# Altium footprint library con-stocko.PCBLIB: 18 footprints (part 2 of 2)
Each footprint in its own frame and in the unit in brackets; x right, y up, seen from the top. Pads: shape width x height; smd on the part's side, far side on the other; paste and mask are expansions set on the pad; w line width, h text height; cw(c..) or ccw(c..) is an arc to the next point about the centre after c.
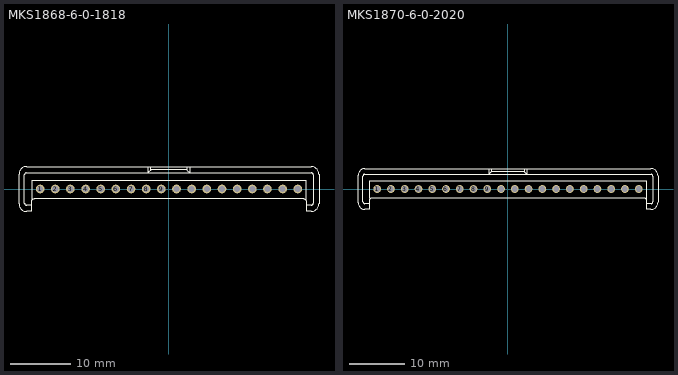
[diagram p1: the footprints below, top view; thin cyan lines are the x and y axes]

## MKS1868-6-0-1818 [mil]
pads (18):
  round 56 hole 39.37: 1(-836.61,0) 2(-738.19,0) 3(-639.76,0) 4(-541.34,0) 5(-442.91,0) 6(-344.49,0) 7(-246.06,0) 8(-147.64,0) 9(-49.21,0) 10(49.21,0) 11(147.64,0) 12(246.06,0) 13(344.49,0) 14(442.91,0) 15(541.34,0) 16(639.76,0) 17(738.19,0) 18(836.61,0)
Top Overlay:
  lines w8: -895.75,-105.13 -923.91,-105.13 cw(c-923.91,-91.05) -937.99,-91.05 -937.99,92.93 cw(c-925.79,92.93) -925.79,105.13 924.85,105.13 cw(c924.85,91.99) 937.99,91.99 937.99,-91.98 cw(c924.85,-91.98) 924.85,-105.13 898.56,-105.13 ; -889.19,-67.58 -889.19,57.26 890.11,57.26 890.11,-68.52 ; -137.05,107.95 -137.05,143.62 ; -133.29,107.95 -118.28,122.97 ; -117.33,142.68 -117.33,123.91 116.39,123.91 116.39,144.56 ; 117.33,122.97 130.47,108.89 ; 136.1,107.95 136.1,142.68 ; -973.66,-96.68 ccw(c-924.85,-96.68) -924.85,-145.49 -894.82,-145.49 -894.82,-85.41 cw(c-874.17,-85.41) -874.17,-64.76 874.16,-64.76 cw(c874.16,-85.41) 894.81,-85.41 894.81,-145.49 923.91,-145.49 ccw(c923.9,-94.81) 974.59,-94.8 974.59,94.81 ccw(c923.9,94.81) 923.91,145.5 -924.85,145.5 ccw(c-924.85,96.69) -973.66,96.69 -973.66,-96.68

## MKS1870-6-0-2020 [mil]
pads (20):
  round 56 hole 39.37: 1(-935.04,0) 2(-836.61,0) 3(-738.19,0) 4(-639.76,0) 5(-541.34,0) 6(-442.91,0) 7(-344.49,0) 8(-246.06,0) 9(-147.64,0) 10(-49.21,0) 11(49.21,0) 12(147.64,0) 13(246.06,0) 14(344.49,0) 15(442.91,0) 16(541.34,0) 17(639.76,0) 18(738.19,0) 19(836.61,0) 20(935.04,0)
Top Overlay:
  lines w8: -994.18,-105.13 -1022.34,-105.13 cw(c-1022.34,-91.05) -1036.42,-91.05 -1036.42,92.93 cw(c-1024.22,92.93) -1024.22,105.13 1023.27,105.13 cw(c1023.27,91.99) 1036.41,91.99 1036.41,-91.98 cw(c1023.26,-91.98) 1023.27,-105.13 996.99,-105.13 ; -987.61,-67.58 -987.61,57.26 988.54,57.26 988.54,-68.52 ; -137.05,107.95 -137.05,143.62 ; -133.29,107.95 -118.28,122.97 ; -117.33,142.68 -117.33,123.91 116.39,123.91 116.39,144.56 ; 117.33,122.97 130.47,108.89 ; 136.1,107.95 136.1,142.68 ; -1072.09,-96.68 ccw(c-1023.28,-96.68) -1023.28,-145.49 -993.24,-145.49 -993.24,-85.41 cw(c-972.59,-85.41) -972.59,-64.76 972.58,-64.76 cw(c972.58,-85.41) 993.23,-85.41 993.23,-145.49 1022.33,-145.49 ccw(c1022.33,-94.8) 1073.02,-94.8 1073.02,94.81 ccw(c1022.33,94.81) 1022.33,145.5 -1023.28,145.5 ccw(c-1023.28,96.69) -1072.09,96.69 -1072.09,-96.68